# Altium footprint library Connectors.PcbLib: 205 footprints (part 1 of 13)
Each footprint in its own frame and in the unit in brackets; x right, y up, seen from the top. Pads: shape width x height; smd on the part's side, far side on the other; paste and mask are expansions set on the pad; w line width, h text height; cw(c..) or ccw(c..) is an arc to the next point about the centre after c.
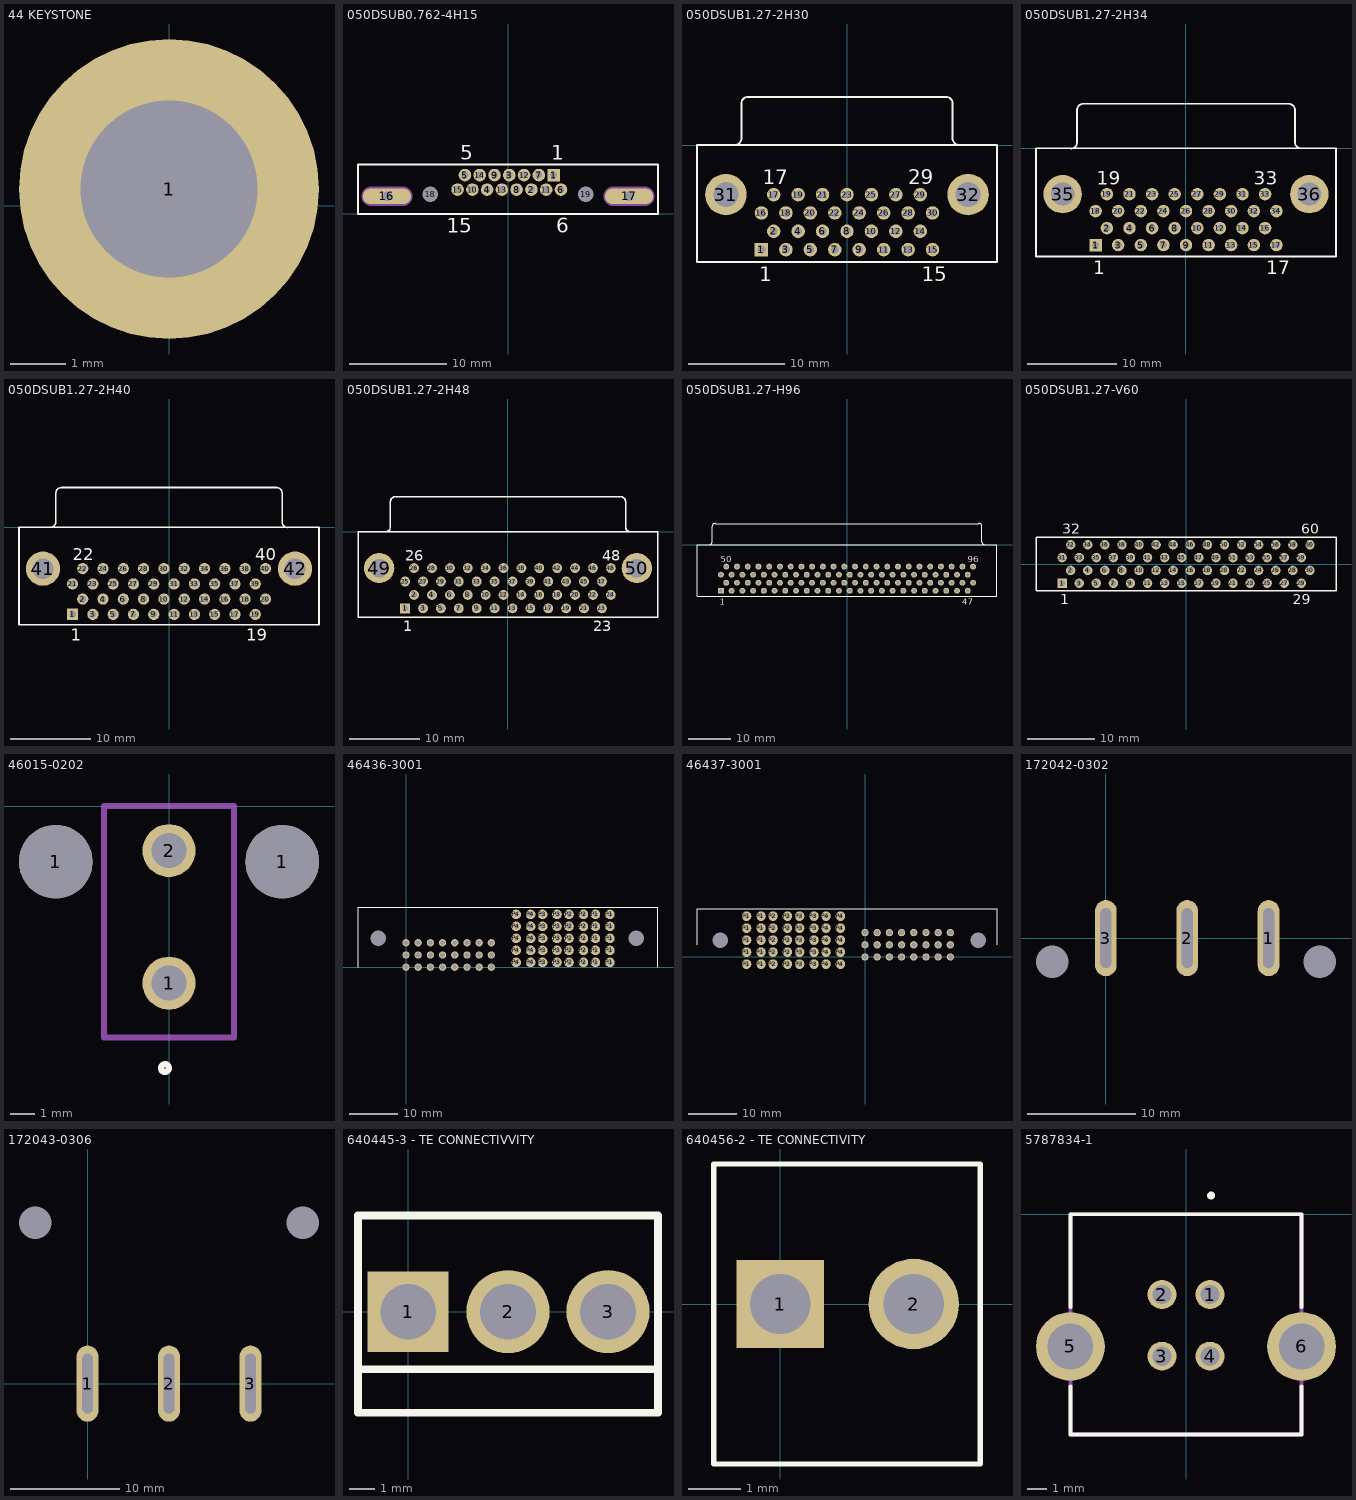
[diagram p0: the footprints below, top view; thin cyan lines are the x and y axes]

## 44 KEYSTONE [mm]
pads (1):
  round 5.4 hole 3.18: 1(0,0.305)
3D body "44 KEYSTONE.step": height 0.53, standoff -3.15, extent -2.565,-2.21 2.515,2.87

## 050DSUB0.762-4H15 [mm] "Connector; D Subminiature; 15 Position; Right Angle; Pitch 0.762 mm"
height 12.65
pads (19):
  rect 1.3x1.3 hole 0.7: 1(4.703,4)
  round 1.3 hole 0.7: 2(2.417,2.5) 3(0.131,4) 4(-2.155,2.5) 5(-4.441,4) 6(5.465,2.5) 7(3.179,4) 8(0.893,2.5) 9(-1.393,4) 10(-3.679,2.5) 11(3.941,2.5) 12(1.655,4) 13(-0.631,2.5) 14(-2.917,4) 15(-5.203,2.5)
  oval 5x1.6 hole 1: 16(-12.495,1.8) 17(12.495,1.8)
  round 1.3 hole 1.6: 18(-8,2) 19(8,2)
Top Overlay:
  lines w0.2: -15.48,0 15.48,0 15.48,5.1 -15.48,5.1 -15.48,0
  text "15" at -6.328,-1.975 h1.5
  text "6" at 4.965,-1.975 h1.5
  text "1" at 4.453,5.6 h1.5
  text "5" at -4.941,5.6 h1.5
3D:
  lines w1.2: -14.12,1.8 -10.87,1.8 ; 10.87,1.8 14.12,1.8
  text "Alert PCB fab to slot details" at -15.505,-1.17 h0.3
  text "Slot 1.2x4.45mm, PTH" at -15.505,-1.67 h0.3
  text "Assign keep-out area to slot" at -15.505,-0.67 h0.3
  text "Mech 1 - Slot cut-out" at -15.505,-2.17 h0.3
  text "Mech 2 - Clearance, move to internal plane if present" at -15.505,-2.67 h0.3
Edge PCB:
  lines w2.016: -14.12,1.8 -10.87,1.8 ; 10.87,1.8 14.12,1.8

## 050DSUB1.27-2H30 [mm] "Connector; D Subminiature; 30 Position; Right Angle; Pitch 1.27 mm"
height 8.1
pads (32):
  rect 1.4x1.4 hole 0.8: 1(-8.89,-10.87)
  round 1.4 hole 0.8: 2(-7.62,-8.965) 3(-6.35,-10.87) 4(-5.08,-8.965) 5(-3.81,-10.87) 6(-2.54,-8.965) 7(-1.27,-10.87) 8(0,-8.965) 9(1.27,-10.87) 10(2.54,-8.965) 11(3.81,-10.87) 12(5.08,-8.965) 13(6.35,-10.87) 14(7.62,-8.965) 15(8.89,-10.87) 16(-8.89,-7.06) 17(-7.62,-5.155) 18(-6.35,-7.06) 19(-5.08,-5.155) 20(-3.81,-7.06) 21(-2.54,-5.155) 22(-1.27,-7.06) 23(0,-5.155) 24(1.27,-7.06) 25(2.54,-5.155) 26(3.81,-7.06) 27(5.08,-5.155) 28(6.35,-7.06) 29(7.62,-5.155) 30(8.89,-7.06)
  round 4.3 hole 2.6: 31(-12.59,-5.155) 32(12.59,-5.155)
Top Overlay:
  lines w0.2: -11.67,0 ccw(c-11.67,0.695) -10.975,0.695 ; -10.975,0.715 -10.975,4.305 cw(c-10.28,4.305) -10.28,5 10.28,5 cw(c10.28,4.305) 10.975,4.305 ; 10.975,4.495 10.975,0.695 ccw(c11.67,0.695) 11.67,0 ; -15.59,-12.17 15.59,-12.17 15.59,0 -15.59,0 -15.59,-12.17
  text "15" at 7.765,-14.145 h1.5
  text "1" at -9.14,-14.145 h1.5
  text "29" at 6.37,-4.08 h1.5
  text "17" at -8.745,-4.08 h1.5

## 050DSUB1.27-2H34 [mm] "Connector; D Subminiature; 34 Position; Right Angle; Pitch 1.27 mm"
height 7.6
pads (36):
  rect 1.4x1.4 hole 0.8: 1(-10.16,-10.87)
  round 1.4 hole 0.8: 2(-8.89,-8.965) 3(-7.62,-10.87) 4(-6.35,-8.965) 5(-5.08,-10.87) 6(-3.81,-8.965) 7(-2.54,-10.87) 8(-1.27,-8.965) 9(0,-10.87) 10(1.27,-8.965) 11(2.54,-10.87) 12(3.81,-8.965) 13(5.08,-10.87) 14(6.35,-8.965) 15(7.62,-10.87) 16(8.89,-8.965) 17(10.16,-10.87) 18(-10.16,-7.06) 19(-8.89,-5.155) 20(-7.62,-7.06) 21(-6.35,-5.155) 22(-5.08,-7.06) 23(-3.81,-5.155) 24(-2.54,-7.06) 25(-1.27,-5.155) 26(0,-7.06) 27(1.27,-5.155) 28(2.54,-7.06) 29(3.81,-5.155) 30(5.08,-7.06) 31(6.35,-5.155) 32(7.62,-7.06) 33(8.89,-5.155) 34(10.16,-7.06)
  round 4.3 hole 2.6: 35(-13.86,-5.155) 36(13.86,-5.155)
Top Overlay:
  lines w0.2: -12.94,-0.02 ccw(c-12.94,0.675) -12.245,0.675 -12.245,4.305 cw(c-11.55,4.305) -11.55,5 11.5,5 ; 11.55,5 cw(c11.55,4.305) 12.245,4.305 12.245,0.695 ccw(c12.94,0.695) 12.94,0 ; -16.86,-12.17 -16.86,0 16.86,0 16.86,-12.17 -16.86,-12.17
  text "17" at 9.035,-14.145 h1.5
  text "1" at -10.41,-14.145 h1.5
  text "33" at 7.64,-4.08 h1.5
  text "19" at -10.015,-4.08 h1.5

## 050DSUB1.27-2H40 [mm] "Connector; D Subminiature; 40 Position; Right Angle; Pitch 1.27 mm"
height 8.1
pads (42):
  rect 1.4x1.4 hole 0.8: 1(-12.065,-10.87)
  round 1.4 hole 0.8: 2(-10.795,-8.965) 3(-9.525,-10.87) 4(-8.255,-8.965) 5(-6.985,-10.87) 6(-5.715,-8.965) 7(-4.445,-10.87) 8(-3.175,-8.965) 9(-1.905,-10.87) 10(-0.635,-8.965) 11(0.635,-10.87) 12(1.905,-8.965) 13(3.175,-10.87) 14(4.445,-8.965) 15(5.715,-10.87) 16(6.985,-8.965) 17(8.255,-10.87) 18(9.525,-8.965) 19(10.795,-10.87) 20(12.065,-8.965) 21(-12.065,-7.06) 22(-10.795,-5.155) 23(-9.525,-7.06) 24(-8.255,-5.155) 25(-6.985,-7.06) 26(-5.715,-5.155) 27(-4.445,-7.06) 28(-3.175,-5.155) 29(-1.905,-7.06) 30(-0.635,-5.155) 31(0.635,-7.06) 32(1.905,-5.155) 33(3.175,-7.06) 34(4.445,-5.155) 35(5.715,-7.06) 36(6.985,-5.155) 37(8.255,-7.06) 38(9.525,-5.155) 39(10.795,-7.06) 40(12.065,-5.155)
  round 4.3 hole 2.6: 41(-15.765,-5.155) 42(15.765,-5.155)
Top Overlay:
  lines w0.2: -14.845,0.02 ccw(c-14.845,0.715) -14.15,0.715 -14.15,4.305 cw(c-13.455,4.305) -13.455,5 ; -13.5,5 13.5,5 ; 13.455,5 cw(c13.455,4.305) 14.15,4.305 14.15,0.687 ccw(c14.845,0.687) 14.845,-0.008 ; -18.765,-12.17 18.765,-12.17 18.765,0 -18.765,0 -18.765,-12.17
  text "40" at 10.815,-4.08 h1.5
  text "22" at -12.045,-4.08 h1.5
  text "1" at -12.315,-14.145 h1.5
  text "19" at 9.67,-14.145 h1.5

## 050DSUB1.27-2H48 [mm] "Connector; D Subminiature; 48 Position; Right Angle; Pitch 1.27 mm"
height 7.6
pads (50):
  rect 1.4x1.4 hole 0.8: 1(-14.605,-10.87)
  round 1.4 hole 0.8: 2(-13.335,-8.965) 3(-12.065,-10.87) 4(-10.795,-8.965) 5(-9.525,-10.87) 6(-8.255,-8.965) 7(-6.985,-10.87) 8(-5.715,-8.965) 9(-4.445,-10.87) 10(-3.175,-8.965) 11(-1.905,-10.87) 12(-0.635,-8.965) 13(0.635,-10.87) 14(1.905,-8.965) 15(3.175,-10.87) 16(4.445,-8.965) 17(5.715,-10.87) 18(6.985,-8.965) 19(8.255,-10.87) 20(9.525,-8.965) 21(10.795,-10.87) 22(12.065,-8.965) 23(13.335,-10.87) 24(14.605,-8.965) 25(-14.605,-7.06) 26(-13.335,-5.155) 27(-12.065,-7.06) 28(-10.795,-5.155) 29(-9.525,-7.06) 30(-8.255,-5.155) 31(-6.985,-7.06) 32(-5.715,-5.155) 33(-4.445,-7.06) 34(-3.175,-5.155) 35(-1.905,-7.06) 36(-0.635,-5.155) 37(0.635,-7.06) 38(1.905,-5.155) 39(3.175,-7.06) 40(4.445,-5.155) 41(5.715,-7.06) 42(6.985,-5.155) 43(8.255,-7.06) 44(9.525,-5.155) 45(10.795,-7.06) 46(12.065,-5.155) 47(13.335,-7.06) 48(14.605,-5.155)
  round 4.3 hole 2.6: 49(-18.305,-5.155) 50(18.305,-5.155)
Top Overlay:
  lines w0.2: -17.385,0.002 ccw(c-17.385,0.697) -16.69,0.697 -16.69,4.305 cw(c-15.995,4.305) -15.995,5 ; -16,5 16,5 ; 15.995,5 cw(c15.995,4.305) 16.69,4.305 16.69,0.717 ccw(c17.385,0.717) 17.385,0.022 ; -21.305,-12.17 21.305,-12.17 21.305,0 -21.305,0 -21.305,-12.17
  text "26" at -14.585,-4.08 h1.5
  text "48" at 13.355,-4.08 h1.5
  text "1" at -14.855,-14.145 h1.5
  text "23" at 12.085,-14.145 h1.5

## 050DSUB1.27-H96 [mm] "Connector; D Subminiature; 96 Position; Right Angle; Pitch 1.27 mm"
height 7.5
pads (96):
  rect 1.4x1.4 hole 0.8: 1(-29.845,-10.915)
  round 1.4 hole 0.8: 2(-28.575,-9.01) 3(-27.305,-10.915) 4(-26.035,-9.01) 5(-24.765,-10.915) 6(-23.495,-9.01) 7(-22.225,-10.915) 8(-20.955,-9.01) 9(-19.685,-10.915) 10(-18.415,-9.01) 11(-17.145,-10.915) 12(-15.875,-9.01) 13(-14.605,-10.915) 14(-13.335,-9.01) 15(-12.065,-10.915) 16(-10.795,-9.01) 17(-9.525,-10.915) 18(-8.255,-9.01) 19(-6.985,-10.915) 20(-5.715,-9.01) 21(-4.445,-10.915) 22(-3.175,-9.01) 23(-1.905,-10.915) 24(-0.635,-9.01) 25(0.635,-10.915) 26(1.905,-9.01) 27(3.175,-10.915) 28(4.445,-9.01) 29(5.715,-10.915) 30(6.985,-9.01) 31(8.255,-10.915) 32(9.525,-9.01) 33(10.795,-10.915) 34(12.065,-9.01) 35(13.335,-10.915) 36(14.605,-9.01) 37(15.875,-10.915) 38(17.145,-9.01) 39(18.415,-10.915) 40(19.685,-9.01) 41(20.955,-10.915) 42(22.225,-9.01) 43(23.495,-10.915) 44(24.765,-9.01) 45(26.035,-10.915) 46(27.305,-9.01) 47(28.575,-10.915) 48(29.845,-9.01) 49(-29.845,-7.105) 50(-28.575,-5.2) 51(-27.305,-7.105) 52(-26.035,-5.2) 53(-24.765,-7.105) 54(-23.495,-5.2) 55(-22.225,-7.105) 56(-20.955,-5.2) 57(-19.685,-7.105) 58(-18.415,-5.2) 59(-17.145,-7.105) 60(-15.875,-5.2) 61(-14.605,-7.105) 62(-13.335,-5.2) 63(-12.065,-7.105) 64(-10.795,-5.2) 65(-9.525,-7.105) 66(-8.255,-5.2) 67(-6.985,-7.105) 68(-5.715,-5.2) 69(-4.445,-7.105) 70(-3.175,-5.2) 71(-1.905,-7.105) 72(-0.635,-5.2) 73(0.635,-7.105) 74(1.905,-5.2) 75(3.175,-7.105) 76(4.445,-5.2) 77(5.715,-7.105) 78(6.985,-5.2) 79(8.255,-7.105) 80(9.525,-5.2) 81(10.795,-7.105) 82(12.065,-5.2) 83(13.335,-7.105) 84(14.605,-5.2) 85(15.875,-7.105) 86(17.145,-5.2) 87(18.415,-7.105) 88(19.685,-5.2) 89(20.955,-7.105) 90(22.225,-5.2) 91(23.495,-7.105) 92(24.765,-5.2) 93(26.035,-7.105) 94(27.305,-5.2) 95(28.575,-7.105) 96(29.845,-5.2)
Top Overlay:
  lines w0.2: -32.625,0.005 ccw(c-32.625,0.7) -31.93,0.7 -31.93,4.33 cw(c-31.235,4.33) -31.235,5.025 ; -31.235,5 31.235,5 ; 31.235,5.025 cw(c31.235,4.33) 31.93,4.33 31.93,0.7 ccw(c32.625,0.7) 32.625,0.005 ; -35.5,-12.2 35.5,-12.2 35.5,0 -35.5,0 -35.5,-12.2
  text "47" at 27.325,-14.175 h1.5
  text "1" at -30.095,-14.175 h1.5
  text "50" at -29.825,-4.125 h1.5
  text "96" at 28.595,-4.125 h1.5

## 050DSUB1.27-V60 [mm] "Connector; D Subminiature; 60 Position; Vertical; Pitch 1.27 mm"
height 8
pads (60):
  rect 1.4x1.4 hole 0.8: 1(-18.415,-2.857)
  round 1.4 hole 0.8: 2(-17.145,-0.953) 3(-15.875,-2.857) 4(-14.605,-0.953) 5(-13.335,-2.857) 6(-12.065,-0.953) 7(-10.795,-2.857) 8(-9.525,-0.953) 9(-8.255,-2.857) 10(-6.985,-0.953) 11(-5.715,-2.857) 12(-4.445,-0.953) 13(-3.175,-2.857) 14(-1.905,-0.953) 15(-0.635,-2.857) 16(0.635,-0.953) 17(1.905,-2.857) 18(3.175,-0.953) 19(4.445,-2.857) 20(5.715,-0.953) 21(6.985,-2.857) 22(8.255,-0.953) 23(9.525,-2.857) 24(10.795,-0.953) 25(12.065,-2.857) 26(13.335,-0.953) 27(14.605,-2.857) 28(15.875,-0.953) 29(17.145,-2.857) 30(18.415,-0.953) 31(-18.415,0.953) 32(-17.145,2.857) 33(-15.875,0.953) 34(-14.605,2.857) 35(-13.335,0.953) 36(-12.065,2.857) 37(-10.795,0.953) 38(-9.525,2.857) 39(-8.255,0.953) 40(-6.985,2.857) 41(-5.715,0.953) 42(-4.445,2.857) 43(-3.175,0.953) 44(-1.905,2.857) 45(-0.635,0.953) 46(0.635,2.857) 47(1.905,0.953) 48(3.175,2.857) 49(4.445,0.953) 50(5.715,2.857) 51(6.985,0.953) 52(8.255,2.857) 53(9.525,0.953) 54(10.795,2.857) 55(12.065,0.953) 56(13.335,2.857) 57(14.605,0.953) 58(15.875,2.857) 59(17.145,0.953) 60(18.415,2.857)
Top Overlay:
  lines w0.2: -22.3,-4 -22.3,4 22.3,4 22.3,-4 -22.3,-4
  text "1" at -18.665,-5.975 h1.5
  text "29" at 15.895,-5.975 h1.5
  text "32" at -18.395,4.475 h1.5
  text "60" at 17.165,4.475 h1.5

## 46015-0202 [mm]
pads (4):
  round 3.05 hole 3.05 unplated: 1(-4.7,-2.31) 1(4.7,-2.31)
  round 2.2 / inner round 1.524 / far side round 2.2 hole 1.45: 1(0,-7.35) 2(0,-1.85)
Top Overlay:
  circle w0.254: c-0.171,-10.873 r0.161
Mechanical 8:
  lines w0.254: -2.7,-9.6 -2.7,0 2.7,0 2.7,-9.6 -2.7,-9.6
Mechanical 22:
  lines w0.254: -2.7,-9.6 2.7,-9.6 2.7,0 -2.7,0 -2.7,-9.6
3D body: height 1.27, standoff 0, extent -1.5,0.1 -1.5,0.1
3D body "46015-0202.stp": height 12.8, standoff -3.5, extent -2.9,-9.6 2.9,1.5

## 46436-3001 [mm]
pads (66):
  round 0 hole 3.2: HOLE(-5.8,6) HOLE(47.96,6)
  round 2 hole 1.02: P1(39.46,1) P1(39.46,3.5) P1(39.46,6) P1(39.46,8.5) P1(39.46,11) P1(42.46,1) P1(42.46,3.5) P1(42.46,6) P1(42.46,8.5) P1(42.46,11) P2(33.96,1) P2(33.96,3.5) P2(33.96,6) P2(33.96,8.5) P2(33.96,11) P2(36.96,1) P2(36.96,3.5) P2(36.96,6) P2(36.96,8.5) P2(36.96,11) P3(28.46,1) P3(28.46,3.5) P3(28.46,6) P3(28.46,8.5) P3(28.46,11) P3(31.46,1) P3(31.46,3.5) P3(31.46,6) P3(31.46,8.5) P3(31.46,11) P4(22.96,1) P4(22.96,3.5) P4(22.96,6) P4(22.96,8.5) P4(22.96,11) P4(25.96,1) P4(25.96,3.5) P4(25.96,6) P4(25.96,8.5) P4(25.96,11)
  round 1.524 hole 1.02: S1(17.78,0) S2(15.24,0) S3(12.7,0) S4(10.16,0) S5(7.62,0) S6(5.08,0) S7(2.54,0) S8(0,0) S9(17.78,2.54) S10(15.24,2.54) S11(12.7,2.54) S12(10.16,2.54) S13(7.62,2.54) S14(5.08,2.54) S15(2.54,2.54) S16(0,2.54) S17(17.78,5.08) S18(15.24,5.08) S19(12.7,5.08) S20(10.16,5.08) S21(7.62,5.08) S22(5.08,5.08) S23(2.54,5.08) S24(0,5.08)
Top Overlay:
  lines w0.254: -10,0 -10,12.5 52.5,12.5 52.5,0
3D body "46436-3001.stp": height 11, standoff -3.48, extent -9.425,-13.635 51.335,11.585

## 46437-3001 [mm]
pads (66):
  round 0 hole 3.2: HOLE(-30.17,3.5) HOLE(23.59,3.5)
  round 2 hole 1.02: P1(-24.67,-1.5) P1(-24.67,1) P1(-24.67,3.5) P1(-24.67,6) P1(-24.67,8.5) P1(-21.67,-1.5) P1(-21.67,1) P1(-21.67,3.5) P1(-21.67,6) P1(-21.67,8.5) P2(-19.17,-1.5) P2(-19.17,1) P2(-19.17,3.5) P2(-19.17,6) P2(-19.17,8.5) P2(-16.17,-1.5) P2(-16.17,1) P2(-16.17,3.5) P2(-16.17,6) P2(-16.17,8.5) P3(-13.63,-1.5) P3(-13.63,1) P3(-13.63,3.5) P3(-13.63,6) P3(-13.63,8.5) P3(-10.63,-1.5) P3(-10.63,1) P3(-10.63,3.5) P3(-10.63,6) P3(-10.63,8.5) P4(-8.13,-1.5) P4(-8.13,1) P4(-8.13,3.5) P4(-8.13,6) P4(-8.13,8.5) P4(-5.13,-1.5) P4(-5.13,1) P4(-5.13,3.5) P4(-5.13,6) P4(-5.13,8.5)
  round 1.524 hole 1.02: S1(0,0) S2(2.54,0) S3(5.08,0) S4(7.62,0) S5(10.16,0) S6(12.7,0) S7(15.24,0) S8(17.78,0) S9(0,2.54) S10(2.54,2.54) S11(5.08,2.54) S12(7.62,2.54) S13(10.16,2.54) S14(12.7,2.54) S15(15.24,2.54) S16(17.78,2.54) S17(0,5.08) S18(2.54,5.08) S19(5.08,5.08) S20(7.62,5.08) S21(10.16,5.08) S22(12.7,5.08) S23(15.24,5.08) S24(17.78,5.08)
Top Overlay:
  lines w0.254: -35,2.54 -35,10 27.5,10 27.5,2.54
3D body "46437-3001.stp": height 11, standoff -3.46, extent -33.455,-20.125 27.305,9.125

## 172042-0302 [mm]
pads (5):
  oval 2x7 hole 5.5 slot 1 at 0 deg: 1(14.98,0) 2(7.49,0) 3(0,0)
  round 0 hole 3: HOLE(-4.928,-2.159) HOLE(19.685,-2.159)
3D body "172042-0302.stp": height 15.26, standoff -3.41, extent -6.845,-7.95 21.73,5.436
3D body: height 2.95, standoff -2.95, extent 6.45,14.8 6.45,14.8

## 172043-0306 [mm]
pads (5):
  oval 2x7 hole 5.5 slot 1 at 0 deg: 1(0,0) 2(7.49,0) 3(14.98,0)
  round 0 hole 3: HOLE(-4.8,14.8) HOLE(19.78,14.8)
3D body "172043-0306.stp": height 13.58, standoff -5.14, extent -6.762,-2.125 21.812,17.75
3D body: height 2.95, standoff -2.95, extent 6.45,14.8 6.45,14.8

## 640445-3 - TE CONNECTIVVITY [mm]
pads (3):
  rect 3.195x3.195 / inner rect 1.524x1.524 / far side rect 3.195x3.195 hole 2.2: 1(0,0)
  round 3.3 / inner round 1.524 / far side round 3.3 hole 2.2: 2(3.962,0) 3(7.924,0)
Top Overlay:
  lines w0.3: -1.982,0 -1.982,-4 9.905,-4 9.905,-2.286 ; 9.905,-2.286 0,-2.286 -1.982,-2.286 -1.982,3.809 -1.981,3.81 -1.778,3.81 -1.777,3.809 9.905,3.809 9.905,-2.286
3D body: height 1.27, standoff 0, extent 1.524,3.302 1.524,3.302
3D body "640445-3.stp": height 13.46, standoff -3.05, extent -1.88,-3.81 10.008,3.81

## 640456-2 - TE CONNECTIVITY [mm]
pads (2):
  rect 1.67x1.67 / inner rect 1.524x1.524 / far side rect 1.67x1.67 hole 1.15: 1(0,0)
  round 1.725 / inner round 1.524 / far side round 1.725 hole 1.15: 2(2.54,0)
Top Overlay:
  lines w0.1: -1.27,-3.048 3.81,-3.048 3.81,2.667 -1.27,2.667 -1.27,-3.048
3D body "640456-2.stp": height 10.03, standoff -3.56, extent -1.27,-3.175 3.81,2.667

## 5787834-1 [mm]
pads (6):
  round 1.5 / inner round 1.524 / far side round 1.5 hole 1: 1(1.25,-4.175) 2(-1.25,-4.175) 3(-1.25,-7.385) 4(1.25,-7.385)
  round 3.58 / inner round 1.524 / far side round 3.58 hole 2.38: 5(-6.02,-6.88) 6(6.02,-6.88)
Top Overlay:
  circle w0.2: c1.304,0.979 r0.102
  lines w0.2: -6.015,-8.95 -6.015,-11.46 6.015,-11.46 6.015,-8.95 ; -6.015,-4.829 -6.015,0 6.015,0 6.015,-4.829
Occupited area:
  lines w0.2: -6.015,-11.46 -6.015,0 6.015,0 6.015,-11.46 -6.015,-11.46
3D body: height 15.62, standoff 0, extent -6.02,-11.43 6.02,0